# Altium footprint library DA2025.PcbLib: 1 footprints
Each footprint in its own frame and in the unit in brackets; x right, y up, seen from the top. Pads: shape width x height; smd on the part's side, far side on the other; paste and mask are expansions set on the pad; w line width, h text height; cw(c..) or ccw(c..) is an arc to the next point about the centre after c.
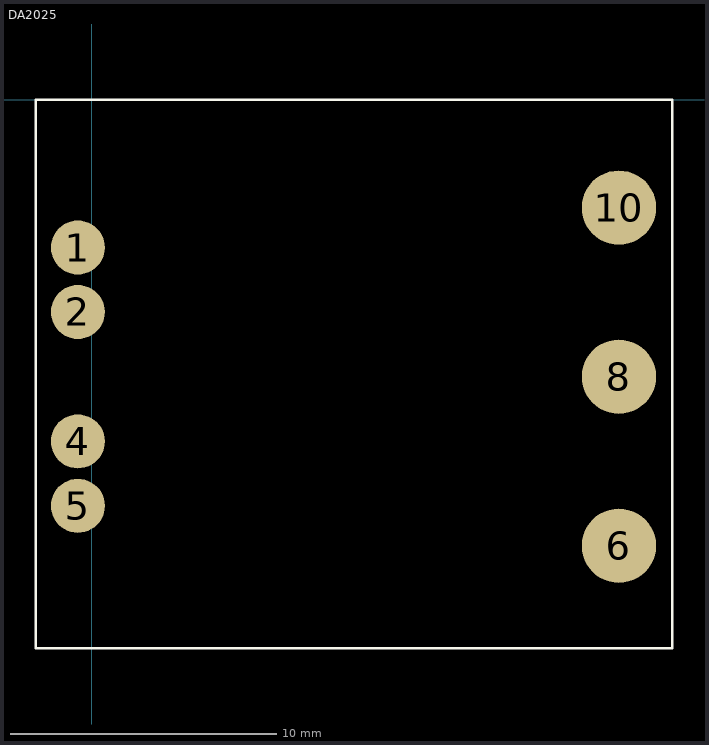
[diagram p0: the footprint, top view; thin cyan lines are the x and y axes]

## DA2025 [mm]
pads (7):
  round 2.03 smd: 1(-0.52,-5.55) 2(-0.52,-7.97) 4(-0.52,-12.83) 5(-0.52,-15.25)
  round 2.79 smd: 6(19.8,-16.75) 8(19.8,-10.4) 10(19.8,-4.05)
Top Overlay:
  lines w0.1: -2.1,-20.6 -2.1,0 21.8,0 21.8,-20.6 -2.1,-20.6